# Altium footprint library PCB - POWER INDUCTORS - WURTH WE-GFH 2520.PcbLib: 1 footprints
Each footprint in its own frame and in the unit in brackets; x right, y up, seen from the top. Pads: shape width x height; smd on the part's side, far side on the other; paste and mask are expansions set on the pad; w line width, h text height; cw(c..) or ccw(c..) is an arc to the next point about the centre after c.
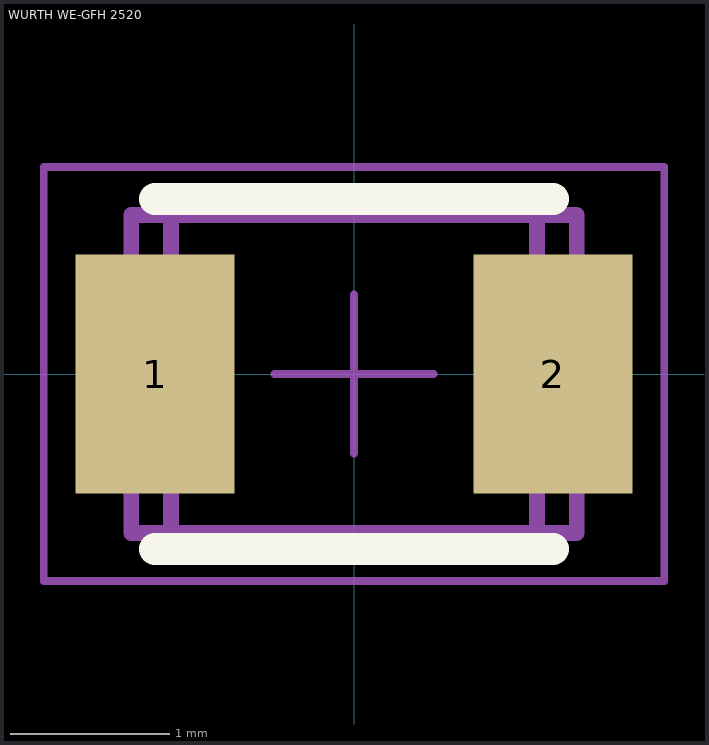
[diagram p0: the footprint, top view; thin cyan lines are the x and y axes]

## WURTH WE-GFH 2520 [mm] "SMT High Frequency Inductor, body 2.5x2mm"
height 2
pads (2):
  rect 1x1.5 smd: 1(-1.25,0) 2(1.25,0)
Top Overlay:
  lines w0.2: -1.25,-1.1 1.25,-1.1 ; -1.25,1.1 1.25,1.1
Top Assembly:
  lines w0.05: -0.5,0 0.5,0 ; 0,-0.5 0,0.5
  lines w0.1: -1.4,-1 1.4,-1 1.4,1 -1.4,1 -1.4,-1
Top Component Outline:
  lines w0.1: -1.15,-1 1.15,-1 1.15,1 -1.15,1 -1.15,-1
Top Courtyard:
  lines w0.05: -1.95,-1.3 -1.95,1.3 1.95,1.3 1.95,-1.3 -1.95,-1.3
3D body "WE-GFH 2520.stp": height 1.8, standoff 0, extent -1.25,-1 1.25,1